# EAGLE library part PORT_EXPANSION_VIC_CONN (library commodore)
Expansionport of the Commodore VIC-20
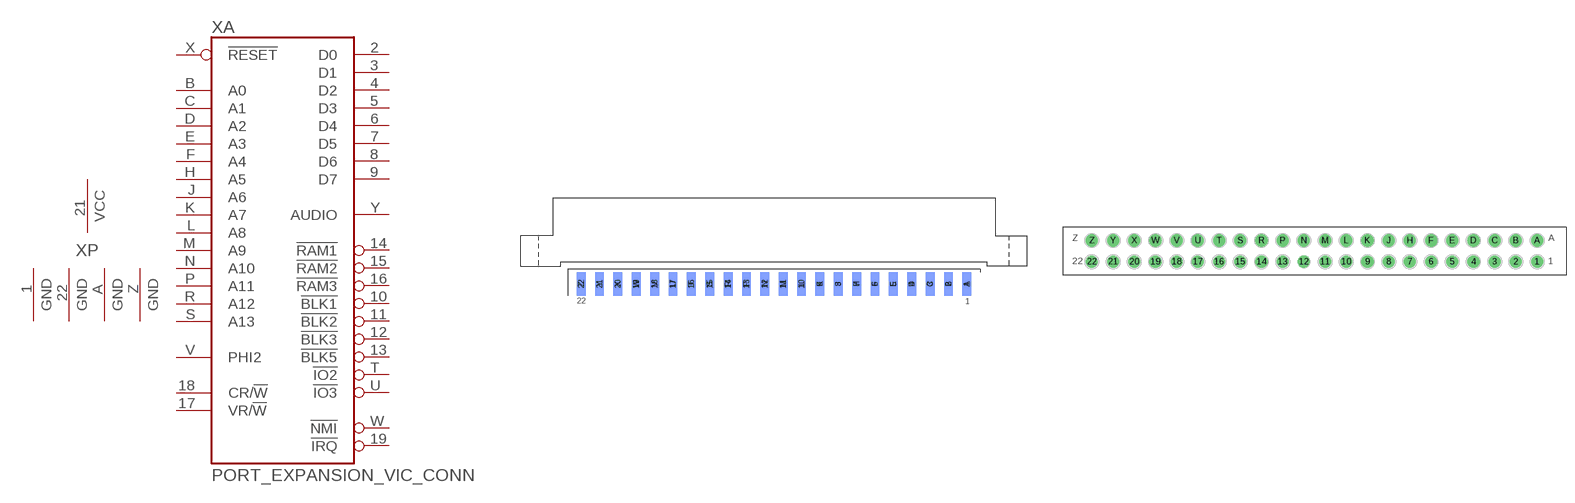
[diagram p30: symbol with the pads of MA156-22-2SHORT; footprints MA156-22-2SHORT, FE156-22-2]

Designator prefix X; gates A=PORT_EXPANSION_VIC_CONN P=PWR-GND4

## PORT_EXPANSION_VIC_CONNR  [MA156-22-2SHORT]
1  P:GND  pwr
2  A:D0
3  A:D1
4  A:D2
5  A:D3
6  A:D4
7  A:D5
8  A:D6
9  A:D7
10  A:!BLK1  in
11  A:!BLK2  in
12  A:!BLK3  in
13  A:!BLK5  in
14  A:!RAM1  in
15  A:!RAM2  in
16  A:!RAM3  in
17  A:VR/!W  in
18  A:CR/!W  in
19  A:!IRQ
21  P:VCC  pwr
22  P:GND  pwr
A  P:GND  pwr
B  A:A0  in
C  A:A1  in
D  A:A2  in
E  A:A3  in
F  A:A4  in
H  A:A5  in
J  A:A6  in
K  A:A7  in
L  A:A8  in
M  A:A9  in
N  A:A10  in
P  A:A11  in
R  A:A12  in
S  A:A13  in
T  A:!IO2  in
U  A:!IO3  in
V  A:PHI2  in
W  A:!NMI
X  A:!RESET
Y  A:AUDIO  pas
Z  P:GND  pwr

## PORT_EXPANSION_VIC_CONN  [FE156-22-2]
Pads as for MA156-22-2SHORT

## Footprint MA156-22-2SHORT (pad centres in mm)
smd 1.905 x 5.08: 1 41.605,0; 2 37.643,0; 3 33.68,0; 4 29.718,0; 5 25.756,0; 6 21.793,0; 7 17.831,0; 8 13.868,0; 9 9.906,0; 10 5.944,0; 11 1.981,0; 12 -1.981,0; 13 -5.944,0; 14 -9.906,0; 15 -13.868,0; 16 -17.831,0; 17 -21.793,0; 18 -25.756,0; 19 -29.718,0; 20 -33.68,0; 21 -37.643,0; 22 -41.605,0
smd 1.905 x 5.08 bottom: A 41.605,0; B 37.643,0; C 33.68,0; D 29.718,0; E 25.756,0; F 21.793,0; H 17.831,0; J 13.868,0; K 9.906,0; L 5.944,0; M 1.981,0; N -1.981,0; P -5.944,0; R -9.906,0; S -13.868,0; T -17.831,0; U -21.793,0; V -25.756,0; W -29.718,0; X -33.68,0; Y -37.643,0; Z -41.605,0

## Footprint FE156-22-2 (pad centres in mm)
drill 1.5: 1 41.605,-1.981; 2 37.643,-1.981; 3 33.68,-1.981; 4 29.718,-1.981; 5 25.756,-1.981; 6 21.793,-1.981; 7 17.831,-1.981; 8 13.868,-1.981; 9 9.906,-1.981; 10 5.944,-1.981; 11 1.981,-1.981; 12 -1.981,-1.981; 13 -5.944,-1.981; 14 -9.906,-1.981; 15 -13.868,-1.981; 16 -17.831,-1.981; 17 -21.793,-1.981; 18 -25.756,-1.981; 19 -29.718,-1.981; 20 -33.68,-1.981; 21 -37.644,-1.958; 22 -41.605,-1.98; A 41.605,1.981; B 37.643,1.981; C 33.68,1.981; D 29.718,1.981; E 25.756,1.981; F 21.793,1.981; H 17.831,1.981; J 13.868,1.981; K 9.906,1.981; L 5.944,1.981; M 1.981,1.981; N -1.981,1.981; P -5.944,1.981; R -9.906,1.981; S -13.868,1.981; T -17.831,1.981; U -21.793,1.981; V -25.756,1.981; W -29.718,1.981; X -33.68,1.981; Y -37.643,1.981; Z -41.605,1.981